# Altium integrated library Integrated_Library.IntLib: 216 symbols (part 3 of 3)
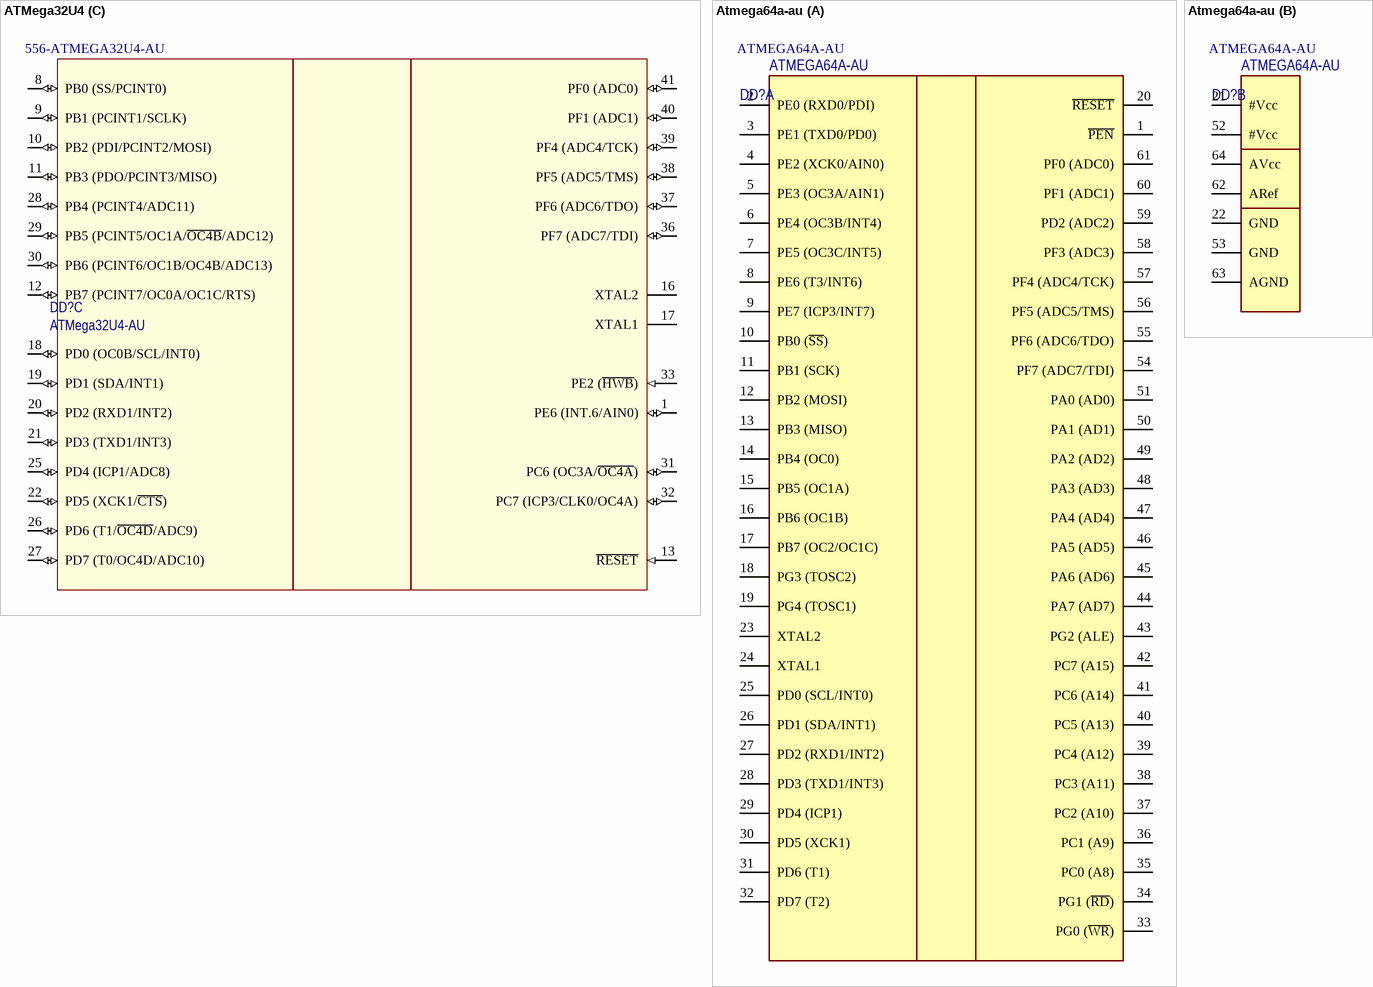
[diagram p24: symbols ATMega32U4 to Atmega64a-au]

## Atmega64a-au
designator DD?, comment ATMEGA64A-AU
Microcontroller 8-bit; Manufacturer: Atmel; _Размер программной памяти: 64 KB; _Вид монтажа: SMD/SMT; _Максимальная тактовая частота: 16 MHz; _Ширина шины данных: 8 bit; _Размер ОЗУ данных: 4 KB; _Ядро: AVR; _Тип интерфейса: SPI, USART; _Category: 8-битные микроконтроллеры; _Размер ПЗУ данных: 2 KB; _Тип памяти программ: Flash; _Минимальная рабочая температура: - 40 C; _Максимальная рабочая температура: + 85 C; _Рабочее напряжение питания: 2.7 V to 5.5 V; _Встроенный в чип АЦП: Yes; _Количество программируемых входов/выходов: 53; _Количество таймеров: 4; _Серия процессора: megaAVR; _Кол-во в стандартной упаковке: 90; _Категория продукта: Microcontrollers - AVR; _Напряжение питания - макс.: 5.5 V; _Напряжение питания - мин.: 2.7 V; _Коммерческое обозначение: ATMEGA; _Minimum Order Quantity: 1; _Reeling: False; Package: TQFP-64; _RoHS: RoHS Compliant; _Производитель: Atmel; _Серия: ATMEGA 64A; ComponentLink1URL: http://www.atmel.com/images/atmel-8160-8-bit-avr-microcontroller-atmega64a-datasheet.pdf; ComponentLink1Description: Datasheet; Cost: 112,37; Supplier: Аргуссофт; ComponentLink2URL: .\datasheet\atmega64a.pdf; ComponentLink2Description: Datasheet-local; Supplier 1: TME; ManufacturerPartNumber: ATMEGA64A-AU; Supplier Part Number 1: ATMEGA64A-AU
footprint 64A_M (Thin QFP, 64-Leads, Body 14x14mm, Pitch 0.8mm, IPC Low Density)
part A pins: 1 ~{PEN}, 2 PE0 (RXD0/PDI), 3 PE1 (TXD0/PD0), 4 PE2 (XCK0/AIN0), 5 PE3 (OC3A/AIN1), 6 PE4 (OC3B/INT4), 7 PE5 (OC3C/INT5), 8 PE6 (T3/INT6), 9 PE7 (ICP3/INT7), 10 PB0 (~{SS}), 11 PB1 (SCK), 12 PB2 (MOSI), 13 PB3 (MISO), 14 PB4 (OC0), 15 PB5 (OC1A), 16 PB6 (OC1B), 17 PB7 (OC2/OC1C), 18 PG3 (TOSC2), 19 PG4 (TOSC1), 20 ~{RESET}, 23 XTAL2, 24 XTAL1, 25 PD0 (SCL/INT0), 26 PD1 (SDA/INT1), 27 PD2 (RXD1/INT2), 28 PD3 (TXD1/INT3), 29 PD4 (ICP1), 30 PD5 (XCK1), 31 PD6 (T1), 32 PD7 (T2), 33 PG0 (~{WR}), 34 PG1 (~{RD}), 35 PC0 (A8), 36 PC1 (A9), 37 PC2 (A10), 38 PC3 (A11), 39 PC4 (A12), 40 PC5 (A13), 41 PC6 (A14), 42 PC7 (A15), 43 PG2 (ALE), 44 PA7 (AD7), 45 PA6 (AD6), 46 PA5 (AD5), 47 PA4 (AD4), 48 PA3 (AD3), 49 PA2 (AD2), 50 PA1 (AD1), 51 PA0 (AD0), 54 PF7 (ADC7/TDI), 55 PF6 (ADC6/TDO), 56 PF5 (ADC5/TMS), 57 PF4 (ADC4/TCK), 58 PF3 (ADC3), 59 PD2 (ADC2), 60 PF1 (ADC1), 61 PF0 (ADC0)
part B pins: 21 #Vcc (power) "Vcc", 22 GND (power), 52 #Vcc (power) "Vcc", 53 GND (power), 62 ARef (power) "AREF", 63 AGND (power), 64 AVcc (power) "Vcc"

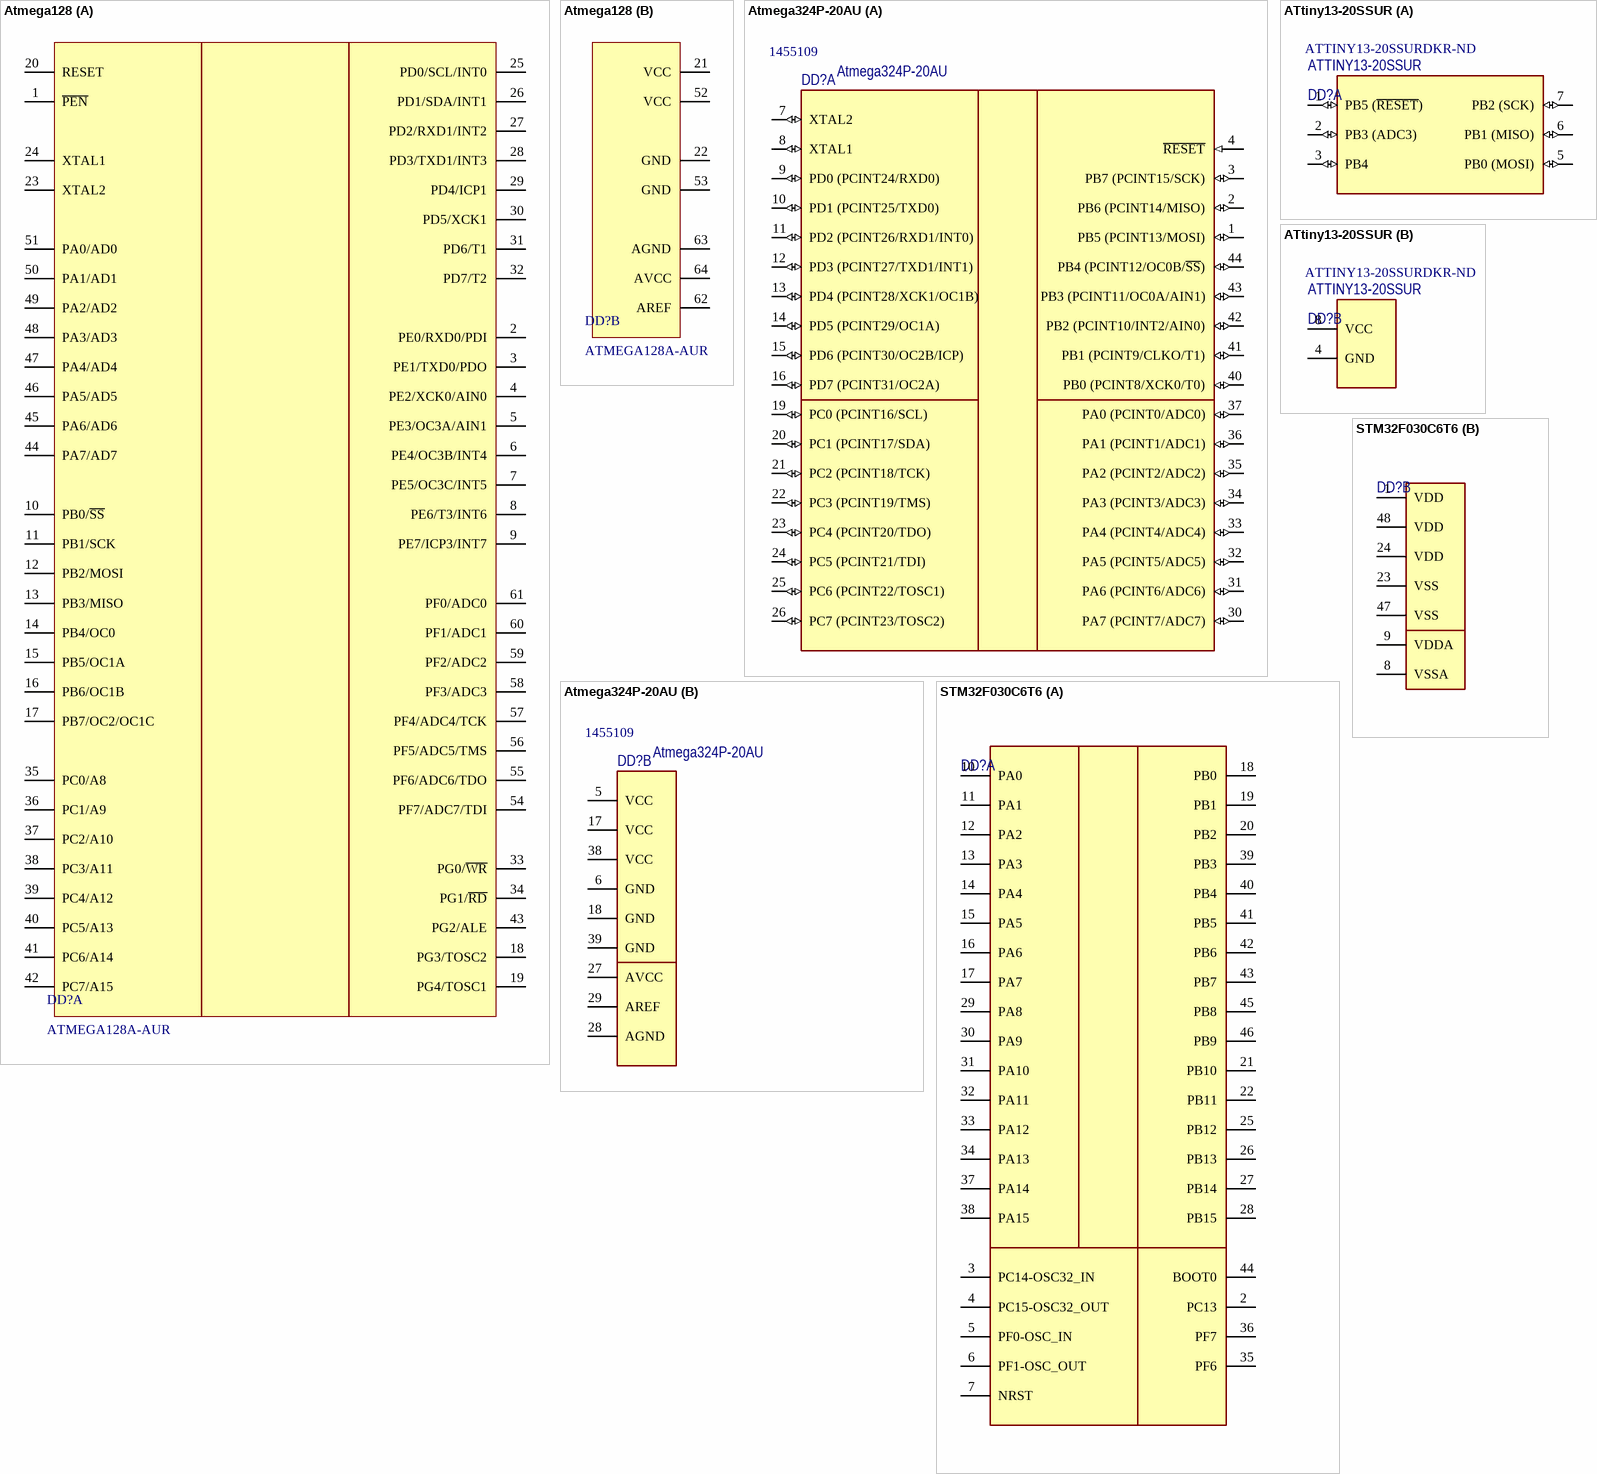
[diagram p17: symbols Atmega128 to STM32F030C6T6]

## Atmega128
designator DD?, comment ATMEGA128A-AUR
IC MCU 8BIT 128KB FLASH 64TQFP; Manufacturer: Atmel; Core Processor: AVR; Core Size: 8-Bit; Speed: 16MHz; Connectivity: EBI/EMI, I²C, SPI, UART/USART; Peripherals: Brown-out Detect/Reset, POR, PWM, WDT; Number of I/O: 53; Program Memory Size: 128KB (64K x 16); EEPROM Size: 4K x 8; Voltage - Supply (Vcc/Vdd): 2.7 V ~ 5.5 V; Data Converters: A/D 8x10b; Oscillator Type: Internal; Supplier 1: Digi-Key; ManufacturerPartNumber: ATMEGA128A-AUR; RoHS: RoHS Compliant; Category: Integrated Circuits (ICs); Stock 1: 1776; Pricing 1: 1=8.89, 10=8.005, 25=7.2932, 100=6.5817, 250=6.04808, 500=5.51444 (USD); Packaging: Cut Tape (CT); Program Memory Type: FLASH; RAM Size: 4K x 8; Operating Temperature: -40°C ~ 85°C; Package / Case: 64-TQFP; Supplier Device Package: 64-TQFP (14x14); ComponentLink1URL: http://www.atmel.com/Images/Atmel-8151S-8-bit-AVR-ATmega128A_Datasheet%20Summary.pdf; ComponentLink1Description: http://www.atmel.com/Images/Atmel-8151S-8-bit-AVR-ATmega128A_Datasheet%20Summary.pdf; Supplier Part Number 1: ATMEGA128A-AURCT-ND
footprint 64A_L (Thin QFP, 64-Leads, Body 14x14mm, Pitch 0.8mm, IPC High Density)
part A pins: 1 ~{PEN}, 2 PE0/RXD0/PDI, 3 PE1/TXD0/PDO, 4 PE2/XCK0/AIN0, 5 PE3/OC3A/AIN1, 6 PE4/OC3B/INT4, 7 PE5/OC3C/INT5, 8 PE6/T3/INT6, 9 PE7/ICP3/INT7, 10 PB0/~{SS}, 11 PB1/SCK, 12 PB2/MOSI, 13 PB3/MISO, 14 PB4/OC0, 15 PB5/OC1A, 16 PB6/OC1B, 17 PB7/OC2/OC1C, 18 PG3/TOSC2, 19 PG4/TOSC1, 20 RESET, 23 XTAL2, 24 XTAL1, 25 PD0/SCL/INT0, 26 PD1/SDA/INT1, 27 PD2/RXD1/INT2, 28 PD3/TXD1/INT3, 29 PD4/ICP1, 30 PD5/XCK1, 31 PD6/T1, 32 PD7/T2, 33 PG0/~{WR}, 34 PG1/~{RD}, 35 PC0/A8, 36 PC1/A9, 37 PC2/A10, 38 PC3/A11, 39 PC4/A12, 40 PC5/A13, 41 PC6/A14, 42 PC7/A15, 43 PG2/ALE, 44 PA7/AD7, 45 PA6/AD6, 46 PA5/AD5, 47 PA4/AD4, 48 PA3/AD3, 49 PA2/AD2, 50 PA1/AD1, 51 PA0/AD0, 54 PF7/ADC7/TDI, 55 PF6/ADC6/TDO, 56 PF5/ADC5/TMS, 57 PF4/ADC4/TCK, 58 PF3/ADC3, 59 PF2/ADC2, 60 PF1/ADC1, 61 PF0/ADC0
part B pins: 21 VCC, 22 GND, 52 VCC, 53 GND, 62 AREF, 63 AGND, 64 AVCC

## Atmega324P-20AU
designator DD?  Supplier Part Number 1: 1455109  (hidden comment: Atmega324P-20AU)
Microcontroller 8-bit; Manufacturer: Atmel; ComponentLink1URL: http://www.atmel.com/Images/Atmel-8011-8-bit-AVR-Microcontroller-ATmega164P-324P-644P_datasheet.pdf; ComponentLink1Description: Datasheet; Cost: 220; Package: TQFP-44; Supplier: Промэлектроника; Supplier 1: Farnell; ManufacturerPartNumber: Atmega324P-20AU
footprint 44ML_M (Thin QFP, 44-Leads, Body 10x10mm, Pitch 0.8mm, IPC Low Density)
part A pins: 1 PB5 (PCINT13/MOSI) (io), 2 PB6 (PCINT14/MISO) (io), 3 PB7 (PCINT15/SCK) (io), 4 ~{RESET} (in), 7 XTAL2 (io), 8 XTAL1 (io), 9 PD0 (PCINT24/RXD0) (io), 10 PD1 (PCINT25/TXD0) (io), 11 PD2 (PCINT26/RXD1/INT0) (io), 12 PD3 (PCINT27/TXD1/INT1) (io), 13 PD4 (PCINT28/XCK1/OC1B) (io), 14 PD5 (PCINT29/OC1A) (io), 15 PD6 (PCINT30/OC2B/ICP) (io), 16 PD7 (PCINT31/OC2A) (io), 19 PC0 (PCINT16/SCL) (io), 20 PC1 (PCINT17/SDA) (io), 21 PC2 (PCINT18/TCK) (io), 22 PC3 (PCINT19/TMS) (io), 23 PC4 (PCINT20/TDO) (io), 24 PC5 (PCINT21/TDI) (io), 25 PC6 (PCINT22/TOSC1) (io), 26 PC7 (PCINT23/TOSC2) (io), 30 PA7 (PCINT7/ADC7) (io), 31 PA6 (PCINT6/ADC6) (io), 32 PA5 (PCINT5/ADC5) (io), 33 PA4 (PCINT4/ADC4) (io), 34 PA3 (PCINT3/ADC3) (io), 35 PA2 (PCINT2/ADC2) (io), 36 PA1 (PCINT1/ADC1) (io), 37 PA0 (PCINT0/ADC0) (io), 40 PB0 (PCINT8/XCK0/T0) (io), 41 PB1 (PCINT9/CLKO/T1) (io), 42 PB2 (PCINT10/INT2/AIN0) (io), 43 PB3 (PCINT11/OC0A/AIN1) (io), 44 PB4 (PCINT12/OC0B/~{SS}) (io)
part B pins: 5 VCC (power), 6 GND (power), 17 VCC (power), 18 GND (power), 27 AVCC (power), 28 AGND (power), 29 AREF (power), 38 VCC (power), 39 GND (power)

## ATtiny13-20SSUR
designator DD?, comment Supplier Part Number 1: ATTINY13-20SSURDKR-ND  (hidden comment: ATTINY13-20SSUR)
Microcontroller 8-bit; Speed: 20MHz; Peripherals: Brown-out Detect/Reset, POR, PWM, WDT; VCC: 2.7 V ~ 5.5 V; Package: 8-SOIC; Cost: 52.64; Supplier 1: Digi-Key; ManufacturerPartNumber: ATTINY13-20SSUR
footprint T5_M (SOP, 8-Leads, Body 5.2x5.3mm, Pitch 1.27mm, IPC Low Density)
part A pins: 1 PB5 (~{RESET}) (io), 2 PB3 (ADC3) (io), 3 PB4 (io), 5 PB0 (MOSI) (io), 6 PB1 (MISO) (io), 7 PB2 (SCK) (io)
part B pins: 4 GND (power), 8 VCC (power)

## STM32F030C6T6
designator DD?
Микроконтроллер ARM; Flash:32кБ; 48МГц; SRAM:4кБ; LQFP48; Manufacturer: ST MICROELECTRONICS; Unit: pcs; SuppliedAmount: 250; MinAmount: 1; Объем Flash-памяти: 32кБ; Монтаж: SMD; Кол-во входов/выходов: 39; Объем памяти SRAM: 4кБ; Напряжение питания: 2.4...3.6В DC; Вид архитектуры: Cortex M0; Интерфейс: I2C; Кол-во таймеров 16 бит: 5; Supplier 1: TME; Category: Микроконтроллеры ST; Stock 1: 252; Pricing 1: 1=1,65, 3=1,6, 10=1,4, 50=1,19 (USD); Weight: 1,92; Multiples: 1; Price Type: NET; Тип микросхемы: микроконтроллер ARM; Тактовая частота: 48МГц; Корпус: LQFP48; Производитель: ST MICROELECTRONICS; ComponentLink1URL: http://www.tme.eu/ru/details/stm32f030c6t6/mikrokontrolljery-st/st-microelectronics/; ComponentLink1Description: http://www.tme.eu/ru/details/stm32f030c6t6/mikrokontrolljery-st/st-microelectronics/; Supplier Part Number 1: STM32F030C6T6; ManufacturerPartNumber: STM32F030C6T6
footprint LQFP48-7x7 (TSQFP, 48-Leads, Body 7,00x7,00mm, Pitch 0,50mm, IPC Low Density)
part A pins: 2 PC13, 3 PC14-OSC32_IN, 4 PC15-OSC32_OUT, 5 PF0-OSC_IN, 6 PF1-OSC_OUT, 7 NRST, 10 PA0, 11 PA1, 12 PA2, 13 PA3, 14 PA4, 15 PA5, 16 PA6, 17 PA7, 18 PB0, 19 PB1, 20 PB2, 21 PB10, 22 PB11, 25 PB12, 26 PB13, 27 PB14, 28 PB15, 29 PA8, 30 PA9, 31 PA10, 32 PA11, 33 PA12, 34 PA13, 35 PF6, 36 PF7, 37 PA14, 38 PA15, 39 PB3, 40 PB4, 41 PB5, 42 PB6, 43 PB7, 44 BOOT0, 45 PB8, 46 PB9
part B pins: 1 VDD, 8 VSSA, 9 VDDA, 23 VSS, 24 VDD, 47 VSS, 48 VDD

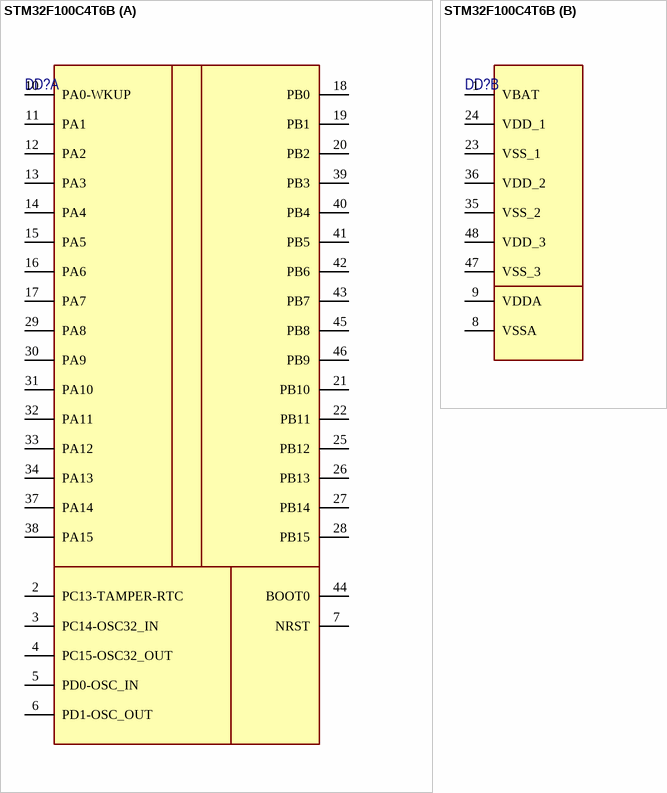
[diagram p18: symbol STM32F100C4T6B]

## STM32F100C4T6B
designator DD?
Микроконтроллеры ARM 32BIT CORTEX M3 48PINS 16KB; Manufacturer: STMicroelectronics; Упаковка / блок: LQFP-48; Упаковка: Tray; Тип памяти программ: Flash; Размер ОЗУ данных: 4 kB; Тип ОЗУ данных: SRAM; Тип интерфейса: I2C, SPI, USART; Вид монтажа: SMD/SMT; Количество входов/выходов: 37 I/O; Разрешение АЦП: 12 bit; Ядро: ARM Cortex M3; Максимальная тактовая частота: 24 MHz; Максимальная рабочая температура: + 85 C; Минимальная рабочая температура: - 40 C; Количество каналов АЦП: 10; Количество таймеров/счетчиков: 5 Timer; Рабочее напряжение питания: 2 V to 3.6 V; Серия процессора: ARM Cortex-M; Категория продукта: ARM Based Microcontrollers; Кол-во в стандартной упаковке: 250; Коммерческое обозначение: STM32; Supplier 1: Mouser; ManufacturerPartNumber: STM32F100C4T6B; RoHS: RoHS Compliant; Category: Микроконтроллеры ARM; Stock 1: 750; Pricing 1: 1=5.33, 10=4.29, 100=3.81, 250=3.51, 500=3.16, 1000=2.66, 2500=2.53, 5000=2.47 (USD); Серия: STM32F1; Торговая марка: STMicroelectronics; Размер программной памяти: 16 kB; Ширина шины данных: 32 bit; Производитель: STMicroelectronics; RoHS - Mouser: Y; Minimum Order Quantity: 1; Reeling: False; ComponentLink1URL: http://www.mouser.com/ds/2/389/CD00251732-315248.pdf; ComponentLink1Description: http://www.mouser.com/ds/2/389/CD00251732-315248.pdf; Supplier Part Number 1: 511-STM32F100C4T6B
footprint LQFP48-7x7 (TSQFP, 48-Leads, Body 7,00x7,00mm, Pitch 0,50mm, IPC Low Density)
part A pins: 2 PC13-TAMPER-RTC, 3 PC14-OSC32_IN, 4 PC15-OSC32_OUT, 5 PD0-OSC_IN, 6 PD1-OSC_OUT, 7 NRST, 10 PA0-WKUP, 11 PA1, 12 PA2, 13 PA3, 14 PA4, 15 PA5, 16 PA6, 17 PA7, 18 PB0, 19 PB1, 20 PB2, 21 PB10, 22 PB11, 25 PB12, 26 PB13, 27 PB14, 28 PB15, 29 PA8, 30 PA9, 31 PA10, 32 PA11, 33 PA12, 34 PA13, 37 PA14, 38 PA15, 39 PB3, 40 PB4, 41 PB5, 42 PB6, 43 PB7, 44 BOOT0, 45 PB8, 46 PB9
part B pins: 1 VBAT, 8 VSSA, 9 VDDA, 23 VSS_1, 24 VDD_1, 35 VSS_2, 36 VDD_2, 47 VSS_3, 48 VDD_3


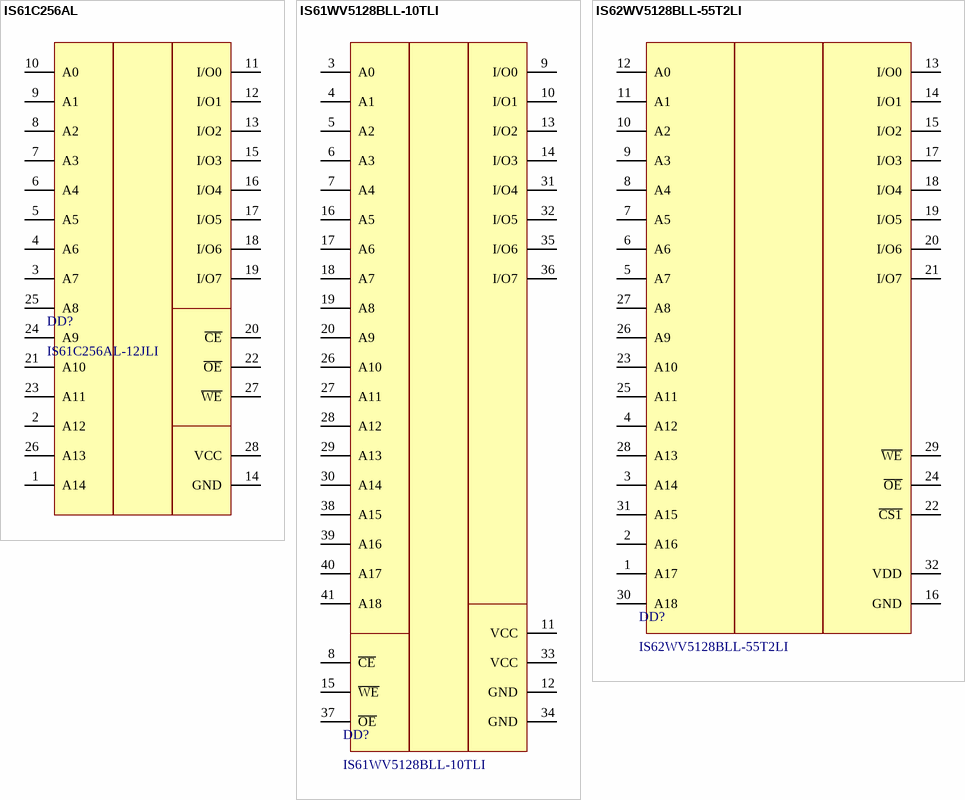
[diagram p19: symbols IS61C256AL to IS62WV5128BLL-55T2LI]

## IS61C256AL
designator DD?, comment IS61C256AL-12JLI
IC SRAM 256KBIT 12NS 28SOJ; Manufacturer: ISSI, Integrated Silicon Solution Inc; Format - Memory: RAM; Memory Type: SRAM - Asynchronous; Memory Size: 256K (32K x 8); Interface: Parallel; Voltage - Supply: 4.5 V ~ 5.5 V; Supplier 1: Digi-Key; ManufacturerPartNumber: IS61C256AL-12JLI; RoHS: RoHS Compliant; Category: Integrated Circuits (ICs); Stock 1: 639; Pricing 1: 1=1.43, 25=1.2696, 100=1.129, 250=1.1256, 500=1.10886, 1000=1.06128, 2500=1.02242, 5000=0.98825 (USD); Packaging: Tube; Speed: 12ns; Operating Temperature: -40°C ~ 85°C; Package / Case: 28-BSOJ (.300", 7.62mm Width); Supplier Device Package: 28-SOJ; ComponentLink1URL: http://www.issi.com/WW/pdf/61C256AL.pdf; ComponentLink1Description: http://www.issi.com/WW/pdf/61C256AL.pdf; Supplier Part Number 1: 706-1030-ND
footprint SOJ127P850X376-28M (SOJ, 28-Leads, Body 18,54x8,54mm, Pitch 1,27mm, IPC Low Density)
pins: 1 A14, 2 A12, 3 A7, 4 A6, 5 A5, 6 A4, 7 A3, 8 A2, 9 A1, 10 A0, 11 I/O0, 12 I/O1, 13 I/O2, 14 GND, 15 I/O3, 16 I/O4, 17 I/O5, 18 I/O6, 19 I/O7, 20 ~{CE}, 21 A10, 22 ~{OE}, 23 A11, 24 A9, 25 A8, 26 A13, 27 ~{WE}, 28 VCC

## IS61WV5128BLL-10TLI
designator DD?
IC SRAM 4MBIT 10NS 44TSOP; Manufacturer: ISSI, Integrated Silicon Solution Inc; Format - Memory: RAM; Memory Type: SRAM - Asynchronous; Memory Size: 4M (512K x 8); Interface: Parallel; Voltage - Supply: 2.4 V ~ 3.6 V; Supplier 1: Digi-Key; ManufacturerPartNumber: IS61WV5128BLL-10TLI; RoHS: RoHS Compliant; Category: Integrated Circuits (ICs); Stock 1: 322; Pricing 1: 1=4.77, 10=4.331, 100=3.7788, 250=3.76472, 500=3.62606, 1000=3.44745, 2500=3.4122, 5000=3.06675 (USD); Packaging: Tray; Speed: 10ns; Operating Temperature: -40°C ~ 85°C; Package / Case: 44-TSOP (0.400", 10.16mm Width); Supplier Device Package: 44-TSOP II; ComponentLink1URL: http://www.issi.com/WW/pdf/61-64WV5128Axx-Bxx.pdf; ComponentLink1Description: http://www.issi.com/WW/pdf/61-64WV5128Axx-Bxx.pdf; Supplier Part Number 1: 706-1108-ND
footprint TSOP80P1180X120-44N (TSOP, 44-Leads, Body 18,41x10,16mm, Pitch 0,80mm, IPC Medium Density)
pins: 1 NC hidden, 2 NC hidden, 3 A0, 4 A1, 5 A2, 6 A3, 7 A4, 8 ~{CE}, 9 I/O0, 10 I/O1, 11 VCC, 12 GND, 13 I/O2, 14 I/O3, 15 ~{WE}, 16 A5, 17 A6, 18 A7, 19 A8, 20 A9, 21 NC hidden, 22 NC hidden, 23 NC hidden, 24 NC hidden, 25 NC hidden, 26 A10, 27 A11, 28 A12, 29 A13, 30 A14, 31 I/O4, 32 I/O5, 33 VCC, 34 GND, 35 I/O6, 36 I/O7, 37 ~{OE}, 38 A15, 39 A16, 40 A17, 41 A18, 42 NC hidden, 43 NC hidden, 44 NC hidden

## IS62WV5128BLL-55T2LI
designator DD?
IC SRAM 4MBIT 55NS 32TSOP; Manufacturer: ISSI, Integrated Silicon Solution Inc; Format - Memory: RAM; Memory Type: SRAM - Asynchronous; Memory Size: 4M (512K x 8); Interface: Parallel; Voltage - Supply: 2.5 V ~ 3.6 V; Supplier 1: Digi-Key; ManufacturerPartNumber: IS62WV5128BLL-55T2LI; RoHS: RoHS Compliant; Category: Integrated Circuits (ICs); Stock 1: 264; Pricing 1: 1=6.16, 10=5.623, 100=4.914, 250=4.89512, 500=4.58956, 1000=4.39425, 2500=4.2525, 5000=3.9123 (USD); Packaging: Tray; Speed: 55ns; Operating Temperature: -40°C ~ 85°C; Package / Case: 32-SOIC (0.400", 10.16mm Width); Supplier Device Package: 32-TSOP II; ComponentLink1URL: http://media.digikey.com/pdf/Data%20Sheets/ISSI%20PDFs/IS62WV5128(A,B)LL.pdf; ComponentLink1Description: http://media.digikey.com/pdf/Data%20Sheets/ISSI%20PDFs/IS62WV5128(A,B)LL.pdf; Supplier Part Number 1: 706-1115-ND
footprint TSOP127P1180X120-32N (TSOP, 32-Leads, Body 20,95x10,16mm, Pitch 1,27mm, IPC Medium Density)
pins: 1 A17, 2 A16, 3 A14, 4 A12, 5 A7, 6 A6, 7 A5, 8 A4, 9 A3, 10 A2, 11 A1, 12 A0, 13 I/O0, 14 I/O1, 15 I/O2, 16 GND, 17 I/O3, 18 I/O4, 19 I/O5, 20 I/O6, 21 I/O7, 22 ~{CS1}, 23 A10, 24 ~{OE}, 25 A11, 26 A9, 27 A8, 28 A13, 29 ~{WE}, 30 A18, 31 A15, 32 VDD


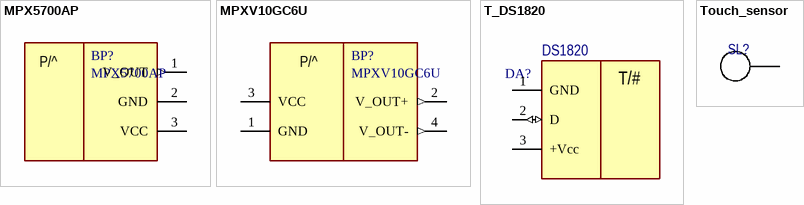
[diagram p20: symbols MPX5700AP to Touch_sensor]

## MPX5700AP
designator BP?
Pressure sensor, 700kPa; Manufacturer: Freescale Semiconductor; ComponentLink1URL: http://cache.freescale.com/files/sensors/doc/data_sheet/MPX5700.pdf; ComponentLink1Description: Datasheet; Cost: 806.86; ManufacturerPartNumber: MPX5700AP; Package: 867B-04; ComponentLink2URL: http://www.promelec.ru/pdf/mpx5700.pdf; ComponentLink2Description: Datasheet-promelec; Supplier: Промэлектроника
footprint MPX5700AP
footprint MPX5700AP_lying
pins: 1 V_OUT (out), 2 GND (power), 3 VCC (power)
text: P/^

## MPXV10GC6U
designator BP?
Pressure sensor, 10kPa; Manufacturer: Freescale Semiconductor; ComponentLink1URL: http://cache.freescale.com/files/sensors/doc/data_sheet/MPX10.pdf?pspll=1; ComponentLink1Description: Datasheet; Cost: 806.86; ManufacturerPartNumber: MPXV10GC6U; Package: 482A-01; ComponentLink2Description: Datasheet-promelec; Supplier: Промэлектроника
footprint MPX482A-01 (SOP, 8-Leads, Body 10,66x10,66mm, Pitch 2,54mm, IPC Low Density)
pins: 1 GND (power), 2 V_OUT+ (out), 3 VCC (power), 4 V_OUT- (out)
text: P/^

## T_DS1820
designator DA?, comment DS1820
Precision Micropower Shunt Voltage Reference; Manufacturer: Dallas Semiconductor; Package: TO-92; ComponentLink1URL: http://datasheets.maximintegrated.com/en/ds/DS18B20-PAR.pdf; ComponentLink1Description: Datasheet; ComponentLink2Description: Datasheet-local; ManufacturerPartNumber: DS1820
footprint L78L09 (TO-92)
pins: 1 GND (power), 2 D (io) "DQ", 3 +Vcc (power) "Vdd"
text: T/#

## Touch_sensor
designator SL?  (value not drawn)
Bolt touch sensor
footprint Bolt 6mm
pins: 1


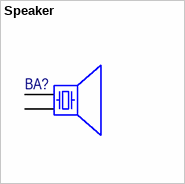
[diagram p21: symbol Speaker]

## Speaker
designator BA?, comment SFM-1740
Piezo speaker; Manufacturer: EAST; Notes: 5V/80db; ManufacturerPartNumber: SFM-1740; Package: SMD; Supplier: Проэлектроника
footprint SFM-1740 (SMD Buzzer/Transducer)
pins: 1, 2
1 alternate drawing of the same symbol


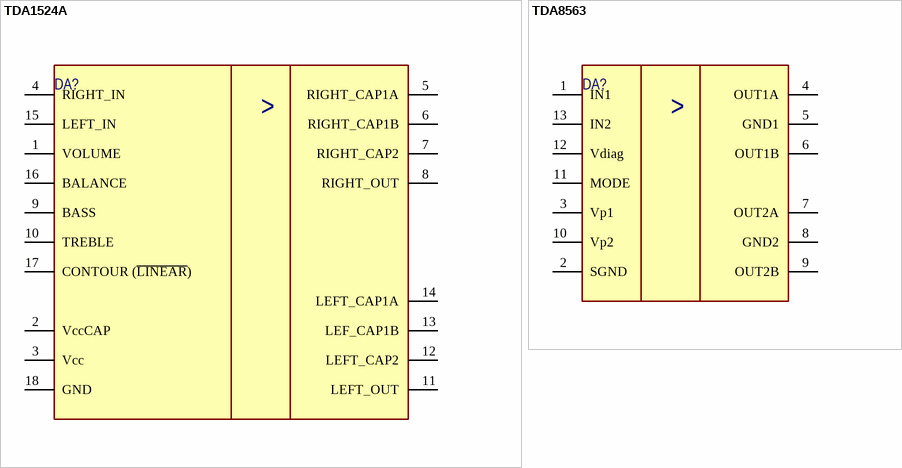
[diagram p22: symbols TDA1524A to TDA8563]

## TDA1524A
designator DA?
Stereo-tone/volume control circuit; Manufacturer: NXP; ComponentLink1Description: Datasheet; ComponentLink1URL: http://pdf.datasheetcatalog.com/datasheet/philips/TDA1524.pdf; Cost: 171.78; ManufacturerPartNumber: TDA1524A; Notes: *; Package: DIP-18; Supplier: Промэлектроника; Value: *
footprint DIP18
pins: 1 VOLUME, 2 VccCAP, 3 Vcc, 4 RIGHT_IN, 5 RIGHT_CAP1A, 6 RIGHT_CAP1B, 7 RIGHT_CAP2, 8 RIGHT_OUT, 9 BASS, 10 TREBLE, 11 LEFT_OUT, 12 LEFT_CAP2, 13 LEF_CAP1B, 14 LEFT_CAP1A, 15 LEFT_IN, 16 BALANCE, 17 CONTOUR (~{LINEAR}), 18 GND
text: >

## TDA8563
designator DA?, comment TDA8563Q
2 × 40 W/2 Ω stereo BTL car radio  power amplifier with diagnostic  facility; Manufacturer: NXP; Value: 2x40W; ComponentLink1Description: Datasheet; ComponentLink1URL: http://yooree.narod.ru/info/TDA8563Q.pdf; Cost: 305.32; ManufacturerPartNumber: TDA8563Q; Notes: *; Package: SIL-13; Supplier: Промэлектроника
footprint SIP-13
pins: 1 IN1, 2 SGND, 3 Vp1, 4 OUT1A, 5 GND1, 6 OUT1B, 7 OUT2A, 8 GND2, 9 OUT2B, 10 Vp2, 11 MODE, 12 Vdiag, 13 IN2
text: >